# Altium footprint library StdSmtFootprints.PcbLib: 8 footprints
Each footprint in its own frame and in the unit in brackets; x right, y up, seen from the top. Pads: shape width x height; smd on the part's side, far side on the other; paste and mask are expansions set on the pad; w line width, h text height; cw(c..) or ccw(c..) is an arc to the next point about the centre after c.
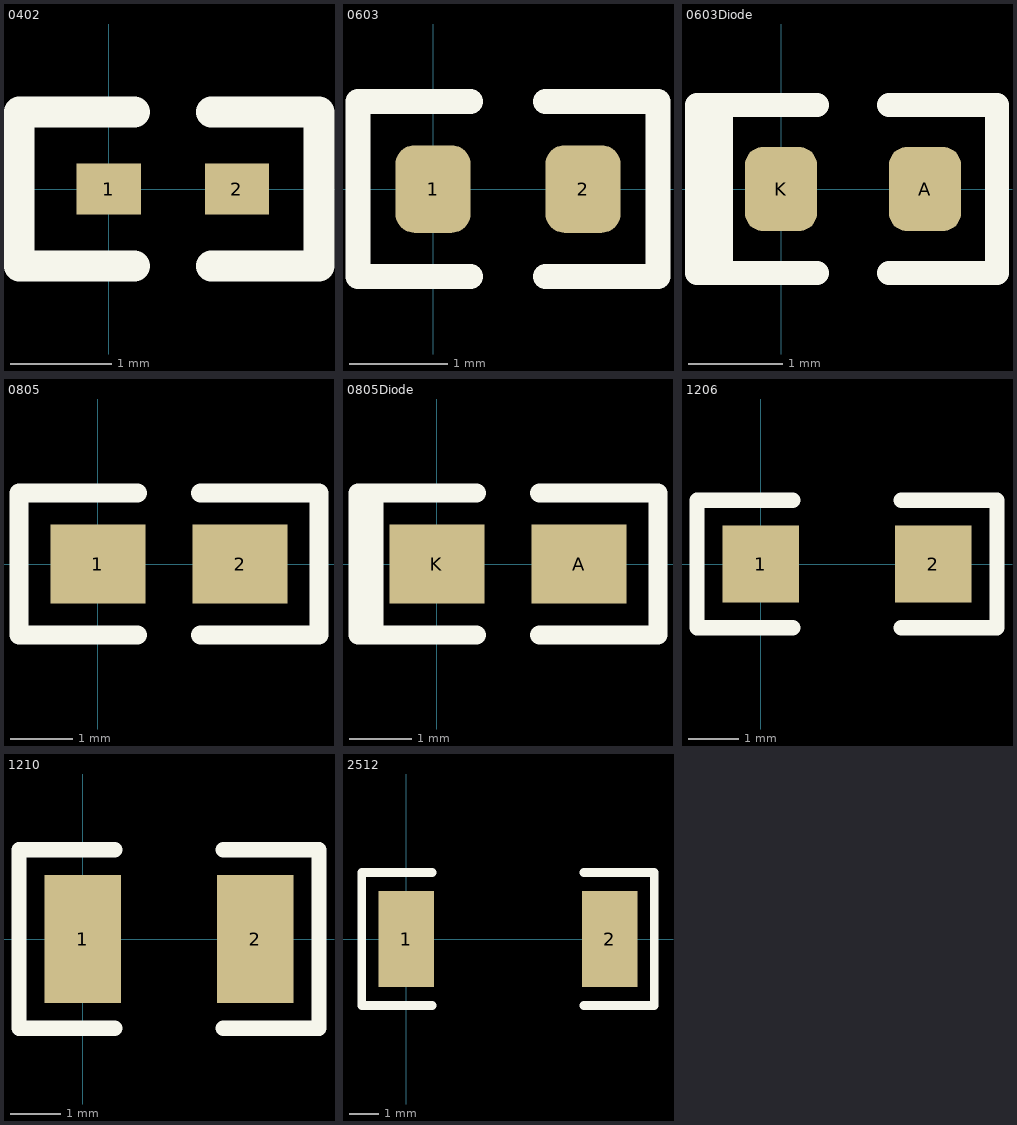
[diagram p0: the footprints below, top view; thin cyan lines are the x and y axes]

## 0402 [mil]
pads (2):
  rect 25x20 smd: 1(0,0) 2(50,0)
Top Overlay:
  lines w12: 10,-30 -35,-30 -35,30 10,30 ; 40,-30 82,-30 82,30 40,30

## 0603 [mil]
pads (2):
  rrect50% 30x35 smd: 1(0,0) 2(60,0)
Top Overlay:
  lines w10: 15,-35 -30,-35 -30,35 15,35 ; 45,-35 90,-35 90,35 45,35

## 0603Diode [mil]
pads (2):
  rrect50% 30x35 smd: A(60,0) K(0,0)
Top Overlay:
  lines w10: -25,-35 -25,35 ; 15,-35 -35,-35 -35,35 15,35 ; 45,-35 90,-35 90,35 45,35

## 0805 [mil]
pads (2):
  rect 60x50 smd: 1(0,0) 2(90,0)
Top Overlay:
  lines w12: 25,-45 -50,-45 -50,45 25,45 ; 65,-45 140,-45 140,45 65,45

## 0805Diode [mil]
pads (2):
  rect 60x50 smd: A(90,0) K(0,0)
Top Overlay:
  lines w12: -40,-45 -40,45 ; 25,-45 -50,-45 -50,45 25,45 ; 65,-45 140,-45 140,45 65,45

## 1206 [mil]
pads (2):
  rect 60x60 smd: 1(0,0) 2(135,0)
Top Overlay:
  lines w12: 25,-50 -50,-50 -50,50 25,50 ; 110,-50 185,-50 185,50 110,50

## 1210 [mil]
pads (2):
  rect 60x100 smd: 1(0,0) 2(135,0)
Top Overlay:
  lines w12: 25,-70 -50,-70 -50,70 25,70 ; 110,-70 185,-70 185,70 110,70

## 2512 [mil]
pads (2):
  rect 75x130 smd: 1(0,0) 2(275,0)
Top Overlay:
  lines w12: 35,-90 -60,-90 -60,90 35,90 ; 240,-90 335,-90 335,90 240,90